# Altium schematic symbol library Активные компоненты.SchLib: 12 symbols
Pins are listed as number, name and electrical type; pins without a type are passive.

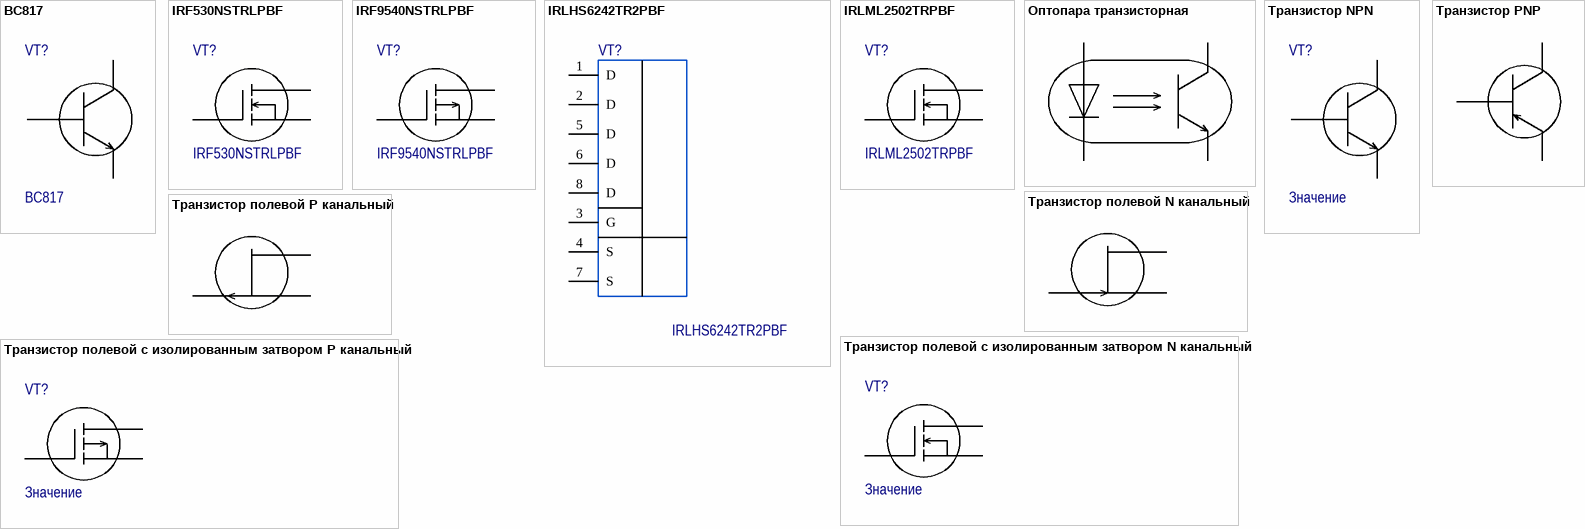
[diagram p0: symbols BC817 to Транзистор полевой с изолированным затвором P канальный]

## BC817
designator VT?
45 V, 500 mA NPN general-purpose transistors; Part: *; Part alternative: *; Value: BC817; ComponentLink1Description: Link; ComponentLink1URL: *; ComponentLink2Description: Alternative link; ComponentLink2URL: *
footprint SOT23
footprint FP-2-3Z1S-MFG
footprint SOT-23 (SOT23, 3-Leads, Body 2,90x2,30mm, Pitch 0,95mm, IPC Medium Density)
pins: 1 Б, 2 Э, 3 К

## IRF530NSTRLPBF
designator VT?
IRF530NSTRLPBF, Транзистор, N-канал 100В 17А [D2-PAK]; Value: IRF530NSTRLPBF; Part: *; Part alternative: *
footprint DPAK
pins: 1 GATE, 2 DRAIN, 3 SOURCE

## IRF9540NSTRLPBF
designator VT?
VDSS = -100V / RDS(on) = 0.117Ω / ID = -23A175°C Operating Temperature / Fast Switching / P-Channel / Fully Avalanche Rated; Value: IRF9540NSTRLPBF; Part: *; Part alternative: *; ComponentLink1Description: Link; ComponentLink1URL: *; ComponentLink2Description: Alternative link; ComponentLink2URL: *
footprint DPAK
footprint FP-2-3Z1S-MFG
pins: 1 GATE, 2 DRAIN, 3 SOURCE

## IRLHS6242TR2PBF
designator VT?
Транзистор, N-канал 30В 8.5А [PQFN-2x2]; Value: IRLHS6242TR2PBF; Part: *; Alternative part: *; ComponentLink1Description: Link; ComponentLink1URL: https://www.chipdip.ru/product/irlhs6242tr2pbf; ComponentLink2Description: Alternative link; ComponentLink2URL: *
footprint PQFN(2X2)
pins: 1 D (power) "POWER", 2 D (power) "POWER", 3 G (power) "POWER", 4 S (power) "POWER", 5 D (power) "POWER", 6 D (power) "POWER", 7 S (power) "POWER", 8 D (power) "POWER"

## IRLML2502TRPBF
designator VT?
Транзистор, N-канал 20В 4.2А logic [Micro3 / SOT-23]; Value: IRLML2502TRPBF; Part: *; Part alternative: *
footprint SOT-23 (SOT23, 3-Leads, Body 2,90x2,30mm, Pitch 0,95mm, IPC Medium Density)
pins: 1 GATE, 2 SOURCE, 3 DRAIN

## Оптопара транзисторная
designator U?  (value not drawn)
Value: Значение; Part: *; Alternative part: *
footprint SO4_1.27 (S0-4)
footprint SOP-4 (Vishay photovoltaic)
footprint SO4_2_54 (S0-4)
pins: 1 1 , 2, 2 Э, 3 К

## Транзистор NPN
designator VT?, comment Значение
Transistor; Part: *; Part alternative: *; Value: Значение; ComponentLink1Description: Link; ComponentLink1URL: *; ComponentLink2Description: Alternative link; ComponentLink2URL: *
footprint SOT23
footprint FP-2-3Z1S-MFG
pins: 1 Б, 2 Э, 3 К

## Транзистор PNP
designator VT?, comment Значение  (value not drawn)
Transistor; Value: Значение; Part: *; Part alternative: *
pins: 1 Б, 2 Э, 3 К

## Транзистор полевой N канальный
designator VT?, comment Значение  (value not drawn)
Transistor; Value: Значение; Part: *; Part alternative: *
footprint SOT23
footprint FP-2-3Z1S-MFG
pins: 1 Б, 2 Э, 3 К

## Транзистор полевой P канальный
designator VT?, comment Значение  (value not drawn)
Transistor; Value: Значение; Part: *; Part alternative: *
footprint SOT23
footprint FP-2-3Z1S-MFG
pins: 1 Б, 2 Э, 3 К

## Транзистор полевой с изолированным затвором N канальный
designator VT?, comment Значение
Transistor; Value: Значение; Part: *; Part alternative: *
pins: 1 GATE, 2 DRAIN, 3 SOURCE

## Транзистор полевой с изолированным затвором P канальный
designator VT?, comment Значение
Transistor; Value: Значение; Part: *; Part alternative: *; ComponentLink1Description: Link; ComponentLink1URL: *; ComponentLink2Description: Alternative link; ComponentLink2URL: *
footprint SOT23
footprint FP-2-3Z1S-MFG
pins: 1 GATE, 2 DRAIN, 3 SOURCE